# Altium footprint library 2019-12-12_18-34-07.PcbLib: 3 footprints
Each footprint in its own frame and in the unit in brackets; x right, y up, seen from the top. Pads: shape width x height; smd on the part's side, far side on the other; paste and mask are expansions set on the pad; w line width, h text height; cw(c..) or ccw(c..) is an arc to the next point about the centre after c.
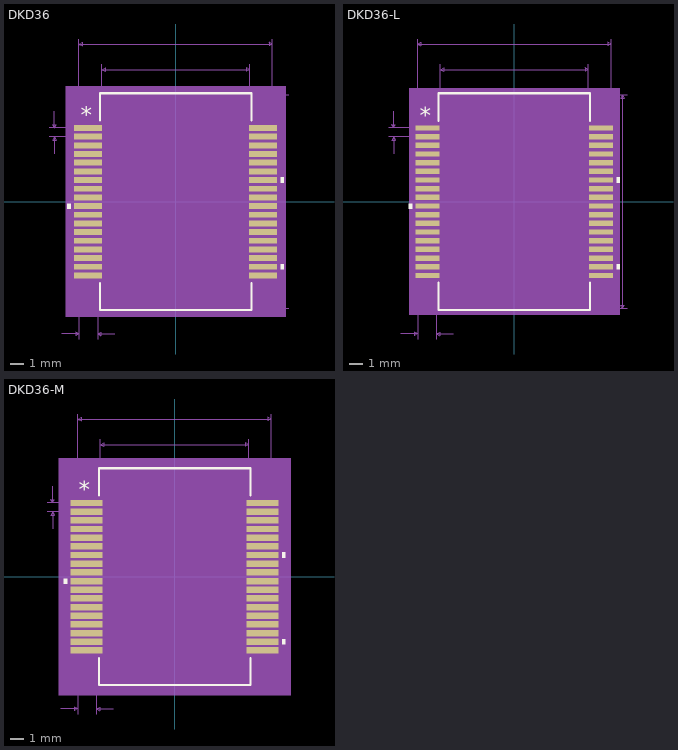
[diagram p0: the footprints below, top view; thin cyan lines are the x and y axes]

## DKD36 [mm]
pads (36):
  rect 2.097x0.441 smd paste+0 mask+0: 1(-6.553,5.525) 2(-6.553,4.875) 3(-6.553,4.225) 4(-6.553,3.575) 5(-6.553,2.925) 6(-6.553,2.275) 7(-6.553,1.625) 8(-6.553,0.975) 9(-6.553,0.325) 10(-6.553,-0.325) 11(-6.553,-0.975) 12(-6.553,-1.625) 13(-6.553,-2.275) 14(-6.553,-2.925) 15(-6.553,-3.575) 16(-6.553,-4.225) 17(-6.553,-4.875) 18(-6.553,-5.525) 19(6.553,-5.525) 20(6.553,-4.875) 21(6.553,-4.225) 22(6.553,-3.575) 23(6.553,-2.925) 24(6.553,-2.275) 25(6.553,-1.625) 26(6.553,-0.975) 27(6.553,-0.325) 28(6.553,0.325) 29(6.553,0.975) 30(6.553,1.625) 31(6.553,2.275) 32(6.553,2.925) 33(6.553,3.575) 34(6.553,4.225) 35(6.553,4.875) 36(6.553,5.525)
Top Overlay:
  region: -7.856,-0.135 -8.11,-0.135 -8.11,-0.516 -7.856,-0.516
  region: 7.856,-4.684 8.11,-4.684 8.11,-5.065 7.856,-5.065
  region: 7.856,1.816 8.11,1.816 8.11,1.435 7.856,1.435
  lines w0.152: -5.677,-6.078 -5.677,-8.128 5.677,-8.128 5.677,-6.078 ; -5.677,6.078 -5.677,8.128 5.677,8.128 5.677,6.078
  text "*" at -7.125,5.839 h1.27
Mechanical 5:
  region: 8.237,-8.636 -8.237,-8.636 -8.237,8.636 8.237,8.636
Mechanical 7:
  lines w0.025: -9.474,4.875 -6.553,4.875 ; -9.474,5.525 -6.553,5.525 ; -9.093,3.605 -9.093,4.875 ; -9.093,6.795 -9.093,5.525 ; -8.522,-9.906 -7.252,-9.906 ; -7.252,-10.287 -7.252,0 -7.252,12.192 ; -5.855,-10.287 -5.855,0 ; -5.55,0 -5.55,10.287 ; -4.585,-9.906 -5.855,-9.906 ; 0,-8.001 8.471,-8.001 ; 0,8.001 8.471,8.001 ; 5.55,0 5.55,10.287 ; 7.252,0 7.252,12.192 ; -9.093,4.875 -9.22,4.621 -8.966,4.621 -9.093,4.875 ; -9.093,5.525 -9.22,5.779 -8.966,5.779 -9.093,5.525 ; -7.252,-9.906 -7.506,-9.779 -7.506,-10.033 -7.252,-9.906 ; -7.252,11.811 7.252,11.811 ; -7.252,11.811 -6.998,11.938 -6.998,11.684 -7.252,11.811 ; -5.855,-9.906 -5.601,-9.779 -5.601,-10.033 -5.855,-9.906 ; -5.55,9.906 5.55,9.906 ; -5.55,9.906 -5.296,10.033 -5.296,9.779 -5.55,9.906 ; 5.55,9.906 5.296,10.033 5.296,9.779 5.55,9.906 ; 7.252,11.811 6.998,11.938 6.998,11.684 7.252,11.811 ; 8.09,-8.001 8.09,8.001 ; 8.09,-8.001 7.963,-7.747 8.217,-7.747 8.09,-8.001 ; 8.09,8.001 7.963,7.747 8.217,7.747 8.09,8.001
  text "Default Padstyle: r210_44" at -7.938,-13.081 h1.27
  text "Pin One Padstyle: r210_44" at -7.938,-14.605 h1.27
  text "Alt 1 Padstyle: b152_229h76" at -8.572,-19.177 h1.27
  text "Alt 2 Padstyle: b229_152h76" at -8.572,-20.701 h1.27
  text "0.437in/11.1mm" at -2.222,10.414 h0.64
  text "0.571in/14.503mm" at -2.54,12.319 h0.64
  text "0.63in/16.002mm" at 8.598,-0.318 h0.64
  text "0.026in/0.65mm" at -14.046,4.882 h0.64
  text "0.043in/1.092mm" at -8.934,-11.049 h0.64
Mechanical 13:
  lines w0: -0.305,8.001 ccw(c0,8.001) 0.305,8.001
  lines w0.025: -7.252,-5.716 -7.252,-5.335 -5.55,-5.335 -5.55,-5.716 -7.252,-5.716 ; -7.252,-5.065 -7.252,-4.684 -5.55,-4.684 -5.55,-5.065 -7.252,-5.065 ; -7.252,-4.416 -7.252,-4.035 -5.55,-4.035 -5.55,-4.416 -7.252,-4.416 ; -7.252,-3.766 -7.252,-3.385 -5.55,-3.385 -5.55,-3.766 -7.252,-3.766 ; -7.252,-3.116 -7.252,-2.735 -5.55,-2.735 -5.55,-3.116 -7.252,-3.116 ; -7.252,-2.466 -7.252,-2.085 -5.55,-2.085 -5.55,-2.466 -7.252,-2.466 ; -7.252,-1.816 -7.252,-1.435 -5.55,-1.435 -5.55,-1.816 -7.252,-1.816 ; -7.252,-1.166 -7.252,-0.785 -5.55,-0.785 -5.55,-1.166 -7.252,-1.166 ; -7.252,-0.516 -7.252,-0.135 -5.55,-0.135 -5.55,-0.516 -7.252,-0.516 ; -7.252,0.134 -7.252,0.515 -5.55,0.515 -5.55,0.134 -7.252,0.134 ; -7.252,0.784 -7.252,1.165 -5.55,1.165 -5.55,0.784 -7.252,0.784 ; -7.252,1.434 -7.252,1.815 -5.55,1.815 -5.55,1.434 -7.252,1.434 ; -7.252,2.084 -7.252,2.465 -5.55,2.465 -5.55,2.084 -7.252,2.084 ; -7.252,2.734 -7.252,3.115 -5.55,3.115 -5.55,2.734 -7.252,2.734 ; -7.252,3.384 -7.252,3.765 -5.55,3.765 -5.55,3.384 -7.252,3.384 ; -7.252,4.034 -7.252,4.415 -5.55,4.415 -5.55,4.034 -7.252,4.034 ; -7.252,4.684 -7.252,5.065 -5.55,5.065 -5.55,4.684 -7.252,4.684 ; -7.252,5.335 -7.252,5.716 -5.55,5.716 -5.55,5.335 -7.252,5.335 ; -5.55,-8.001 5.55,-8.001 5.55,8.001 -5.55,8.001 -5.55,-8.001 ; 5.55,-5.716 5.55,-5.335 7.252,-5.335 7.252,-5.716 5.55,-5.716 ; 5.55,-5.065 5.55,-4.684 7.252,-4.684 7.252,-5.065 5.55,-5.065 ; 5.55,-4.416 5.55,-4.035 7.252,-4.035 7.252,-4.416 5.55,-4.416 ; 5.55,-3.765 5.55,-3.384 7.252,-3.384 7.252,-3.765 5.55,-3.765 ; 5.55,-3.116 5.55,-2.735 7.252,-2.735 7.252,-3.116 5.55,-3.116 ; 5.55,-2.465 5.55,-2.084 7.252,-2.084 7.252,-2.465 5.55,-2.465 ; 5.55,-1.816 5.55,-1.435 7.252,-1.435 7.252,-1.816 5.55,-1.816 ; 5.55,-1.165 5.55,-0.784 7.252,-0.784 7.252,-1.165 5.55,-1.165 ; 5.55,-0.516 5.55,-0.135 7.252,-0.135 7.252,-0.516 5.55,-0.516 ; 5.55,0.135 5.55,0.516 7.252,0.516 7.252,0.135 5.55,0.135 ; 5.55,0.784 5.55,1.165 7.252,1.165 7.252,0.784 5.55,0.784 ; 5.55,1.435 5.55,1.816 7.252,1.816 7.252,1.435 5.55,1.435 ; 5.55,2.084 5.55,2.465 7.252,2.465 7.252,2.084 5.55,2.084 ; 5.55,2.735 5.55,3.116 7.252,3.116 7.252,2.735 5.55,2.735 ; 5.55,3.384 5.55,3.765 7.252,3.765 7.252,3.384 5.55,3.384 ; 5.55,4.035 5.55,4.416 7.252,4.416 7.252,4.035 5.55,4.035 ; 5.55,4.684 5.55,5.065 7.252,5.065 7.252,4.684 5.55,4.684 ; 5.55,5.335 5.55,5.716 7.252,5.716 7.252,5.335 5.55,5.335
  text "*" at -5.486,6.655 h1.27
Mechanical 15:
  region: -5.804,-6 -7.856,-6 -7.856,6 -5.804,6 -5.804,8.255 5.804,8.255 5.804,6 7.856,6 7.856,-6 5.804,-6 5.804,-8.255 -5.804,-8.255
  lines w0.152: -7.856,-6 -7.856,6 -5.804,6 -5.804,8.255 5.804,8.255 5.804,6 7.856,6 7.856,-6 5.804,-6 5.804,-8.255 -5.804,-8.255 -5.804,-6 -7.856,-6
3D body: height 0.25, standoff 0, extent 0,0 0.254,0.254

## DKD36-L [mm]
pads (36):
  rect 1.797x0.401 smd paste+0 mask+0: 1(-6.503,5.525) 2(-6.503,4.875) 3(-6.503,4.225) 4(-6.503,3.575) 5(-6.503,2.925) 6(-6.503,2.275) 7(-6.503,1.625) 8(-6.503,0.975) 9(-6.503,0.325) 10(-6.503,-0.325) 11(-6.503,-0.975) 12(-6.503,-1.625) 13(-6.503,-2.275) 14(-6.503,-2.925) 15(-6.503,-3.575) 16(-6.503,-4.225) 17(-6.503,-4.875) 18(-6.503,-5.525) 19(6.503,-5.525) 20(6.503,-4.875) 21(6.503,-4.225) 22(6.503,-3.575) 23(6.503,-2.925) 24(6.503,-2.275) 25(6.503,-1.625) 26(6.503,-0.975) 27(6.503,-0.325) 28(6.503,0.325) 29(6.503,0.975) 30(6.503,1.625) 31(6.503,2.275) 32(6.503,2.925) 33(6.503,3.575) 34(6.503,4.225) 35(6.503,4.875) 36(6.503,5.525)
Top Overlay:
  region: -7.656,-0.135 -7.91,-0.135 -7.91,-0.516 -7.656,-0.516
  region: 7.656,-4.684 7.91,-4.684 7.91,-5.065 7.656,-5.065
  region: 7.656,1.816 7.91,1.816 7.91,1.435 7.656,1.435
  lines w0.152: -5.677,-6.058 -5.677,-8.128 5.677,-8.128 5.677,-6.058 ; -5.677,6.058 -5.677,8.128 5.677,8.128 5.677,6.058
  text "*" at -7.075,5.799 h1.27
Mechanical 5:
  region: 7.884,-8.484 -7.884,-8.484 -7.884,8.484 7.884,8.484
Mechanical 7:
  lines w0.025: -9.424,4.875 -6.503,4.875 ; -9.424,5.525 -6.503,5.525 ; -9.043,3.605 -9.043,4.875 ; -9.043,6.795 -9.043,5.525 ; -8.522,-9.906 -7.252,-9.906 ; -7.252,-10.287 -7.252,0 -7.252,12.192 ; -5.855,-10.287 -5.855,0 ; -5.55,0 -5.55,10.287 ; -4.585,-9.906 -5.855,-9.906 ; 0,-8.001 8.471,-8.001 ; 0,8.001 8.471,8.001 ; 5.55,0 5.55,10.287 ; 7.252,0 7.252,12.192 ; -9.043,4.875 -9.17,4.621 -8.916,4.621 -9.043,4.875 ; -9.043,5.525 -9.17,5.779 -8.916,5.779 -9.043,5.525 ; -7.252,-9.906 -7.506,-9.779 -7.506,-10.033 -7.252,-9.906 ; -7.252,11.811 7.252,11.811 ; -7.252,11.811 -6.998,11.938 -6.998,11.684 -7.252,11.811 ; -5.855,-9.906 -5.601,-9.779 -5.601,-10.033 -5.855,-9.906 ; -5.55,9.906 5.55,9.906 ; -5.55,9.906 -5.296,10.033 -5.296,9.779 -5.55,9.906 ; 5.55,9.906 5.296,10.033 5.296,9.779 5.55,9.906 ; 7.252,11.811 6.998,11.938 6.998,11.684 7.252,11.811 ; 8.09,-8.001 8.09,8.001 ; 8.09,-8.001 7.963,-7.747 8.217,-7.747 8.09,-8.001 ; 8.09,8.001 7.963,7.747 8.217,7.747 8.09,8.001
  text "Default Padstyle: r180_40" at -7.938,-13.081 h1.27
  text "Pin One Padstyle: r180_40" at -7.938,-14.605 h1.27
  text "Alt 1 Padstyle: b152_229h76" at -8.572,-19.177 h1.27
  text "Alt 2 Padstyle: b229_152h76" at -8.572,-20.701 h1.27
  text "0.437in/11.1mm" at -2.222,10.414 h0.64
  text "0.571in/14.503mm" at -2.54,12.319 h0.64
  text "0.63in/16.002mm" at 8.598,-0.318 h0.64
  text "0.026in/0.65mm" at -13.996,4.882 h0.64
  text "0.043in/1.092mm" at -8.934,-11.049 h0.64
Mechanical 13:
  lines w0: -0.305,8.001 ccw(c0,8.001) 0.305,8.001
  lines w0.025: -7.252,-5.716 -7.252,-5.335 -5.55,-5.335 -5.55,-5.716 -7.252,-5.716 ; -7.252,-5.065 -7.252,-4.684 -5.55,-4.684 -5.55,-5.065 -7.252,-5.065 ; -7.252,-4.416 -7.252,-4.035 -5.55,-4.035 -5.55,-4.416 -7.252,-4.416 ; -7.252,-3.766 -7.252,-3.385 -5.55,-3.385 -5.55,-3.766 -7.252,-3.766 ; -7.252,-3.116 -7.252,-2.735 -5.55,-2.735 -5.55,-3.116 -7.252,-3.116 ; -7.252,-2.466 -7.252,-2.085 -5.55,-2.085 -5.55,-2.466 -7.252,-2.466 ; -7.252,-1.816 -7.252,-1.435 -5.55,-1.435 -5.55,-1.816 -7.252,-1.816 ; -7.252,-1.166 -7.252,-0.785 -5.55,-0.785 -5.55,-1.166 -7.252,-1.166 ; -7.252,-0.516 -7.252,-0.135 -5.55,-0.135 -5.55,-0.516 -7.252,-0.516 ; -7.252,0.134 -7.252,0.515 -5.55,0.515 -5.55,0.134 -7.252,0.134 ; -7.252,0.784 -7.252,1.165 -5.55,1.165 -5.55,0.784 -7.252,0.784 ; -7.252,1.434 -7.252,1.815 -5.55,1.815 -5.55,1.434 -7.252,1.434 ; -7.252,2.084 -7.252,2.465 -5.55,2.465 -5.55,2.084 -7.252,2.084 ; -7.252,2.734 -7.252,3.115 -5.55,3.115 -5.55,2.734 -7.252,2.734 ; -7.252,3.384 -7.252,3.765 -5.55,3.765 -5.55,3.384 -7.252,3.384 ; -7.252,4.034 -7.252,4.415 -5.55,4.415 -5.55,4.034 -7.252,4.034 ; -7.252,4.684 -7.252,5.065 -5.55,5.065 -5.55,4.684 -7.252,4.684 ; -7.252,5.335 -7.252,5.716 -5.55,5.716 -5.55,5.335 -7.252,5.335 ; -5.55,-8.001 5.55,-8.001 5.55,8.001 -5.55,8.001 -5.55,-8.001 ; 5.55,-5.716 5.55,-5.335 7.252,-5.335 7.252,-5.716 5.55,-5.716 ; 5.55,-5.065 5.55,-4.684 7.252,-4.684 7.252,-5.065 5.55,-5.065 ; 5.55,-4.416 5.55,-4.035 7.252,-4.035 7.252,-4.416 5.55,-4.416 ; 5.55,-3.765 5.55,-3.384 7.252,-3.384 7.252,-3.765 5.55,-3.765 ; 5.55,-3.116 5.55,-2.735 7.252,-2.735 7.252,-3.116 5.55,-3.116 ; 5.55,-2.465 5.55,-2.084 7.252,-2.084 7.252,-2.465 5.55,-2.465 ; 5.55,-1.816 5.55,-1.435 7.252,-1.435 7.252,-1.816 5.55,-1.816 ; 5.55,-1.165 5.55,-0.784 7.252,-0.784 7.252,-1.165 5.55,-1.165 ; 5.55,-0.516 5.55,-0.135 7.252,-0.135 7.252,-0.516 5.55,-0.516 ; 5.55,0.135 5.55,0.516 7.252,0.516 7.252,0.135 5.55,0.135 ; 5.55,0.784 5.55,1.165 7.252,1.165 7.252,0.784 5.55,0.784 ; 5.55,1.435 5.55,1.816 7.252,1.816 7.252,1.435 5.55,1.435 ; 5.55,2.084 5.55,2.465 7.252,2.465 7.252,2.084 5.55,2.084 ; 5.55,2.735 5.55,3.116 7.252,3.116 7.252,2.735 5.55,2.735 ; 5.55,3.384 5.55,3.765 7.252,3.765 7.252,3.384 5.55,3.384 ; 5.55,4.035 5.55,4.416 7.252,4.416 7.252,4.035 5.55,4.035 ; 5.55,4.684 5.55,5.065 7.252,5.065 7.252,4.684 5.55,4.684 ; 5.55,5.335 5.55,5.716 7.252,5.716 7.252,5.335 5.55,5.335
  text "*" at -5.486,6.655 h1.27
Mechanical 15:
  region: -5.651,-5.827 -7.503,-5.827 -7.503,5.827 -5.651,5.827 -5.651,8.103 5.651,8.103 5.651,5.827 7.503,5.827 7.503,-5.827 5.651,-5.827 5.651,-8.103 -5.651,-8.103
  lines w0.152: -7.503,-5.827 -7.503,5.827 -5.651,5.827 -5.651,8.103 5.651,8.103 5.651,5.827 7.503,5.827 7.503,-5.827 5.651,-5.827 5.651,-8.103 -5.651,-8.103 -5.651,-5.827 -7.503,-5.827
3D body: height 0.25, standoff 0, extent 0,0 0.254,0.254

## DKD36-M [mm]
pads (36):
  rect 2.397x0.481 smd paste+0 mask+0: 1(-6.603,5.525) 2(-6.603,4.875) 3(-6.603,4.225) 4(-6.603,3.575) 5(-6.603,2.925) 6(-6.603,2.275) 7(-6.603,1.625) 8(-6.603,0.975) 9(-6.603,0.325) 10(-6.603,-0.325) 11(-6.603,-0.975) 12(-6.603,-1.625) 13(-6.603,-2.275) 14(-6.603,-2.925) 15(-6.603,-3.575) 16(-6.603,-4.225) 17(-6.603,-4.875) 18(-6.603,-5.525) 19(6.603,-5.525) 20(6.603,-4.875) 21(6.603,-4.225) 22(6.603,-3.575) 23(6.603,-2.925) 24(6.603,-2.275) 25(6.603,-1.625) 26(6.603,-0.975) 27(6.603,-0.325) 28(6.603,0.325) 29(6.603,0.975) 30(6.603,1.625) 31(6.603,2.275) 32(6.603,2.925) 33(6.603,3.575) 34(6.603,4.225) 35(6.603,4.875) 36(6.603,5.525)
Top Overlay:
  region: -8.056,-0.135 -8.31,-0.135 -8.31,-0.516 -8.056,-0.516
  region: 8.056,-4.684 8.31,-4.684 8.31,-5.065 8.056,-5.065
  region: 8.056,1.816 8.31,1.816 8.31,1.435 8.056,1.435
  lines w0.152: -5.677,-6.098 -5.677,-8.128 5.677,-8.128 5.677,-6.098 ; -5.677,6.098 -5.677,8.128 5.677,8.128 5.677,6.098
  text "*" at -7.175,5.879 h1.27
Mechanical 5:
  region: 8.691,-8.89 -8.691,-8.89 -8.691,8.89 8.691,8.89
Mechanical 7:
  lines w0.025: -9.524,4.875 -6.603,4.875 ; -9.524,5.525 -6.603,5.525 ; -9.143,3.605 -9.143,4.875 ; -9.143,6.795 -9.143,5.525 ; -8.522,-9.906 -7.252,-9.906 ; -7.252,-10.287 -7.252,0 -7.252,12.192 ; -5.855,-10.287 -5.855,0 ; -5.55,0 -5.55,10.287 ; -4.585,-9.906 -5.855,-9.906 ; 0,-8.001 8.471,-8.001 ; 0,8.001 8.471,8.001 ; 5.55,0 5.55,10.287 ; 7.252,0 7.252,12.192 ; -9.143,4.875 -9.27,4.621 -9.016,4.621 -9.143,4.875 ; -9.143,5.525 -9.27,5.779 -9.016,5.779 -9.143,5.525 ; -7.252,-9.906 -7.506,-9.779 -7.506,-10.033 -7.252,-9.906 ; -7.252,11.811 7.252,11.811 ; -7.252,11.811 -6.998,11.938 -6.998,11.684 -7.252,11.811 ; -5.855,-9.906 -5.601,-9.779 -5.601,-10.033 -5.855,-9.906 ; -5.55,9.906 5.55,9.906 ; -5.55,9.906 -5.296,10.033 -5.296,9.779 -5.55,9.906 ; 5.55,9.906 5.296,10.033 5.296,9.779 5.55,9.906 ; 7.252,11.811 6.998,11.938 6.998,11.684 7.252,11.811 ; 8.09,-8.001 8.09,8.001 ; 8.09,-8.001 7.963,-7.747 8.217,-7.747 8.09,-8.001 ; 8.09,8.001 7.963,7.747 8.217,7.747 8.09,8.001
  text "Default Padstyle: r240_48" at -7.938,-13.081 h1.27
  text "Pin One Padstyle: r240_48" at -7.938,-14.605 h1.27
  text "Alt 1 Padstyle: b152_229h76" at -8.572,-19.177 h1.27
  text "Alt 2 Padstyle: b229_152h76" at -8.572,-20.701 h1.27
  text "0.437in/11.1mm" at -2.222,10.414 h0.64
  text "0.571in/14.503mm" at -2.54,12.319 h0.64
  text "0.63in/16.002mm" at 8.598,-0.318 h0.64
  text "0.026in/0.65mm" at -14.096,4.882 h0.64
  text "0.043in/1.092mm" at -8.934,-11.049 h0.64
Mechanical 13:
  lines w0: -0.305,8.001 ccw(c0,8.001) 0.305,8.001
  lines w0.025: -7.252,-5.716 -7.252,-5.335 -5.55,-5.335 -5.55,-5.716 -7.252,-5.716 ; -7.252,-5.065 -7.252,-4.684 -5.55,-4.684 -5.55,-5.065 -7.252,-5.065 ; -7.252,-4.416 -7.252,-4.035 -5.55,-4.035 -5.55,-4.416 -7.252,-4.416 ; -7.252,-3.766 -7.252,-3.385 -5.55,-3.385 -5.55,-3.766 -7.252,-3.766 ; -7.252,-3.116 -7.252,-2.735 -5.55,-2.735 -5.55,-3.116 -7.252,-3.116 ; -7.252,-2.466 -7.252,-2.085 -5.55,-2.085 -5.55,-2.466 -7.252,-2.466 ; -7.252,-1.816 -7.252,-1.435 -5.55,-1.435 -5.55,-1.816 -7.252,-1.816 ; -7.252,-1.166 -7.252,-0.785 -5.55,-0.785 -5.55,-1.166 -7.252,-1.166 ; -7.252,-0.516 -7.252,-0.135 -5.55,-0.135 -5.55,-0.516 -7.252,-0.516 ; -7.252,0.134 -7.252,0.515 -5.55,0.515 -5.55,0.134 -7.252,0.134 ; -7.252,0.784 -7.252,1.165 -5.55,1.165 -5.55,0.784 -7.252,0.784 ; -7.252,1.434 -7.252,1.815 -5.55,1.815 -5.55,1.434 -7.252,1.434 ; -7.252,2.084 -7.252,2.465 -5.55,2.465 -5.55,2.084 -7.252,2.084 ; -7.252,2.734 -7.252,3.115 -5.55,3.115 -5.55,2.734 -7.252,2.734 ; -7.252,3.384 -7.252,3.765 -5.55,3.765 -5.55,3.384 -7.252,3.384 ; -7.252,4.034 -7.252,4.415 -5.55,4.415 -5.55,4.034 -7.252,4.034 ; -7.252,4.684 -7.252,5.065 -5.55,5.065 -5.55,4.684 -7.252,4.684 ; -7.252,5.335 -7.252,5.716 -5.55,5.716 -5.55,5.335 -7.252,5.335 ; -5.55,-8.001 5.55,-8.001 5.55,8.001 -5.55,8.001 -5.55,-8.001 ; 5.55,-5.716 5.55,-5.335 7.252,-5.335 7.252,-5.716 5.55,-5.716 ; 5.55,-5.065 5.55,-4.684 7.252,-4.684 7.252,-5.065 5.55,-5.065 ; 5.55,-4.416 5.55,-4.035 7.252,-4.035 7.252,-4.416 5.55,-4.416 ; 5.55,-3.765 5.55,-3.384 7.252,-3.384 7.252,-3.765 5.55,-3.765 ; 5.55,-3.116 5.55,-2.735 7.252,-2.735 7.252,-3.116 5.55,-3.116 ; 5.55,-2.465 5.55,-2.084 7.252,-2.084 7.252,-2.465 5.55,-2.465 ; 5.55,-1.816 5.55,-1.435 7.252,-1.435 7.252,-1.816 5.55,-1.816 ; 5.55,-1.165 5.55,-0.784 7.252,-0.784 7.252,-1.165 5.55,-1.165 ; 5.55,-0.516 5.55,-0.135 7.252,-0.135 7.252,-0.516 5.55,-0.516 ; 5.55,0.135 5.55,0.516 7.252,0.516 7.252,0.135 5.55,0.135 ; 5.55,0.784 5.55,1.165 7.252,1.165 7.252,0.784 5.55,0.784 ; 5.55,1.435 5.55,1.816 7.252,1.816 7.252,1.435 5.55,1.435 ; 5.55,2.084 5.55,2.465 7.252,2.465 7.252,2.084 5.55,2.084 ; 5.55,2.735 5.55,3.116 7.252,3.116 7.252,2.735 5.55,2.735 ; 5.55,3.384 5.55,3.765 7.252,3.765 7.252,3.384 5.55,3.384 ; 5.55,4.035 5.55,4.416 7.252,4.416 7.252,4.035 5.55,4.035 ; 5.55,4.684 5.55,5.065 7.252,5.065 7.252,4.684 5.55,4.684 ; 5.55,5.335 5.55,5.716 7.252,5.716 7.252,5.335 5.55,5.335
  text "*" at -5.486,6.655 h1.27
Mechanical 15:
  region: -6.058,-6.274 -8.31,-6.274 -8.31,6.274 -6.058,6.274 -6.058,8.509 6.058,8.509 6.058,6.274 8.31,6.274 8.31,-6.274 6.058,-6.274 6.058,-8.509 -6.058,-8.509
  lines w0.152: -8.31,-6.274 -8.31,6.274 -6.058,6.274 -6.058,8.509 6.058,8.509 6.058,6.274 8.31,6.274 8.31,-6.274 6.058,-6.274 6.058,-8.509 -6.058,-8.509 -6.058,-6.274 -8.31,-6.274
3D body: height 0.25, standoff 0, extent 0,0 0.254,0.254